# Altium schematic symbol library 62300421021.SchLib: 1 symbol
Pins are listed as number, name and electrical type; pins without a type are passive.

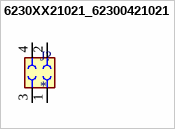
[diagram p0: symbol 6230XX21021_62300421021]

## 6230XX21021_62300421021
designator J?
WR-PHD 1.27 mm Dual SMT Socket Header H=4.50mm; MF: Wurth Elektronik; MP: 62300421021; SnapEDA_Link: https://www.snapeda.com/parts/62300421021/Wurth+Electronics/view-part/?ref=snap; Package: None; Value: *; Check_prices: https://www.snapeda.com/parts/62300421021/Wurth+Electronics/view-part/?ref=eda
footprint 62300421021
pins: 1, 2, 3, 4